# EAGLE library part MCP2004 (library MCP2004)
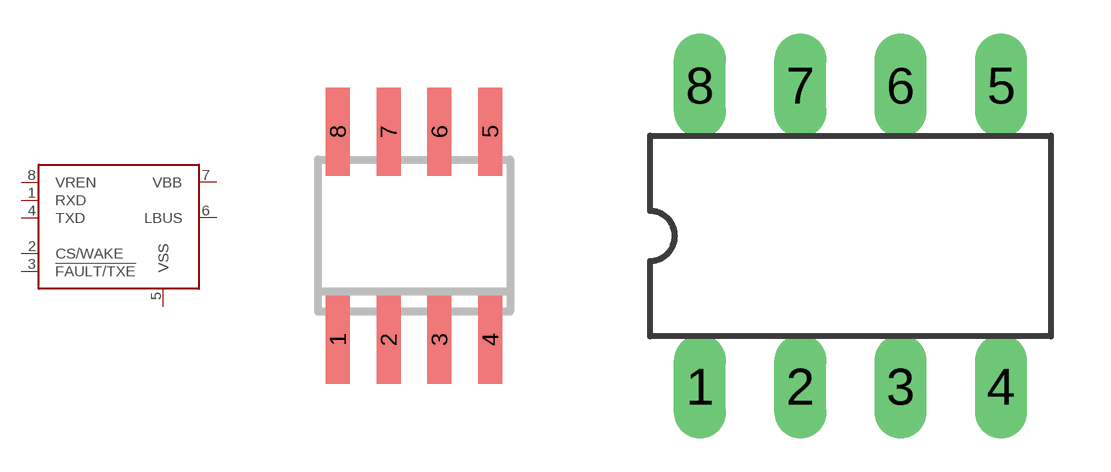
[diagram p1: symbol with the pads of SO-08; footprints SO-08, DIL8]

Designator prefix -

## MCP2004SN  [SO-08]
1  RXD  out
2  CS/WAKE  in
3  !FAULT/TXE
4  TXD  in
5  VSS  pwr
6  LBUS
7  VBB  pwr
8  VREN  sup

## MCP2004P  [DIL8]
Pads as for SO-08

## Footprint SO-08 (pad centres in mm)
Small Outline Narrow Plastic Gull Wing 150-mil body, package type SN
smd 0.6 x 2.2: 1 -1.905,-2.6; 2 -0.635,-2.6; 3 0.635,-2.6; 4 1.905,-2.6; 5 1.905,2.6; 6 0.635,2.6; 7 -0.635,2.6; 8 -1.905,2.6

## Footprint DIL8 (pad centres in mm)
Dual In Line package type P
drill 0.813 long: 1 -3.81,-3.81; 2 -1.27,-3.81; 3 1.27,-3.81; 4 3.81,-3.81; 5 3.81,3.81; 6 1.27,3.81; 7 -1.27,3.81; 8 -3.81,3.81